# Altium schematic symbol library LIBRARY IGREBOT.SchLib: 100 symbols
Pins are listed as number, name and electrical type; pins without a type are passive.

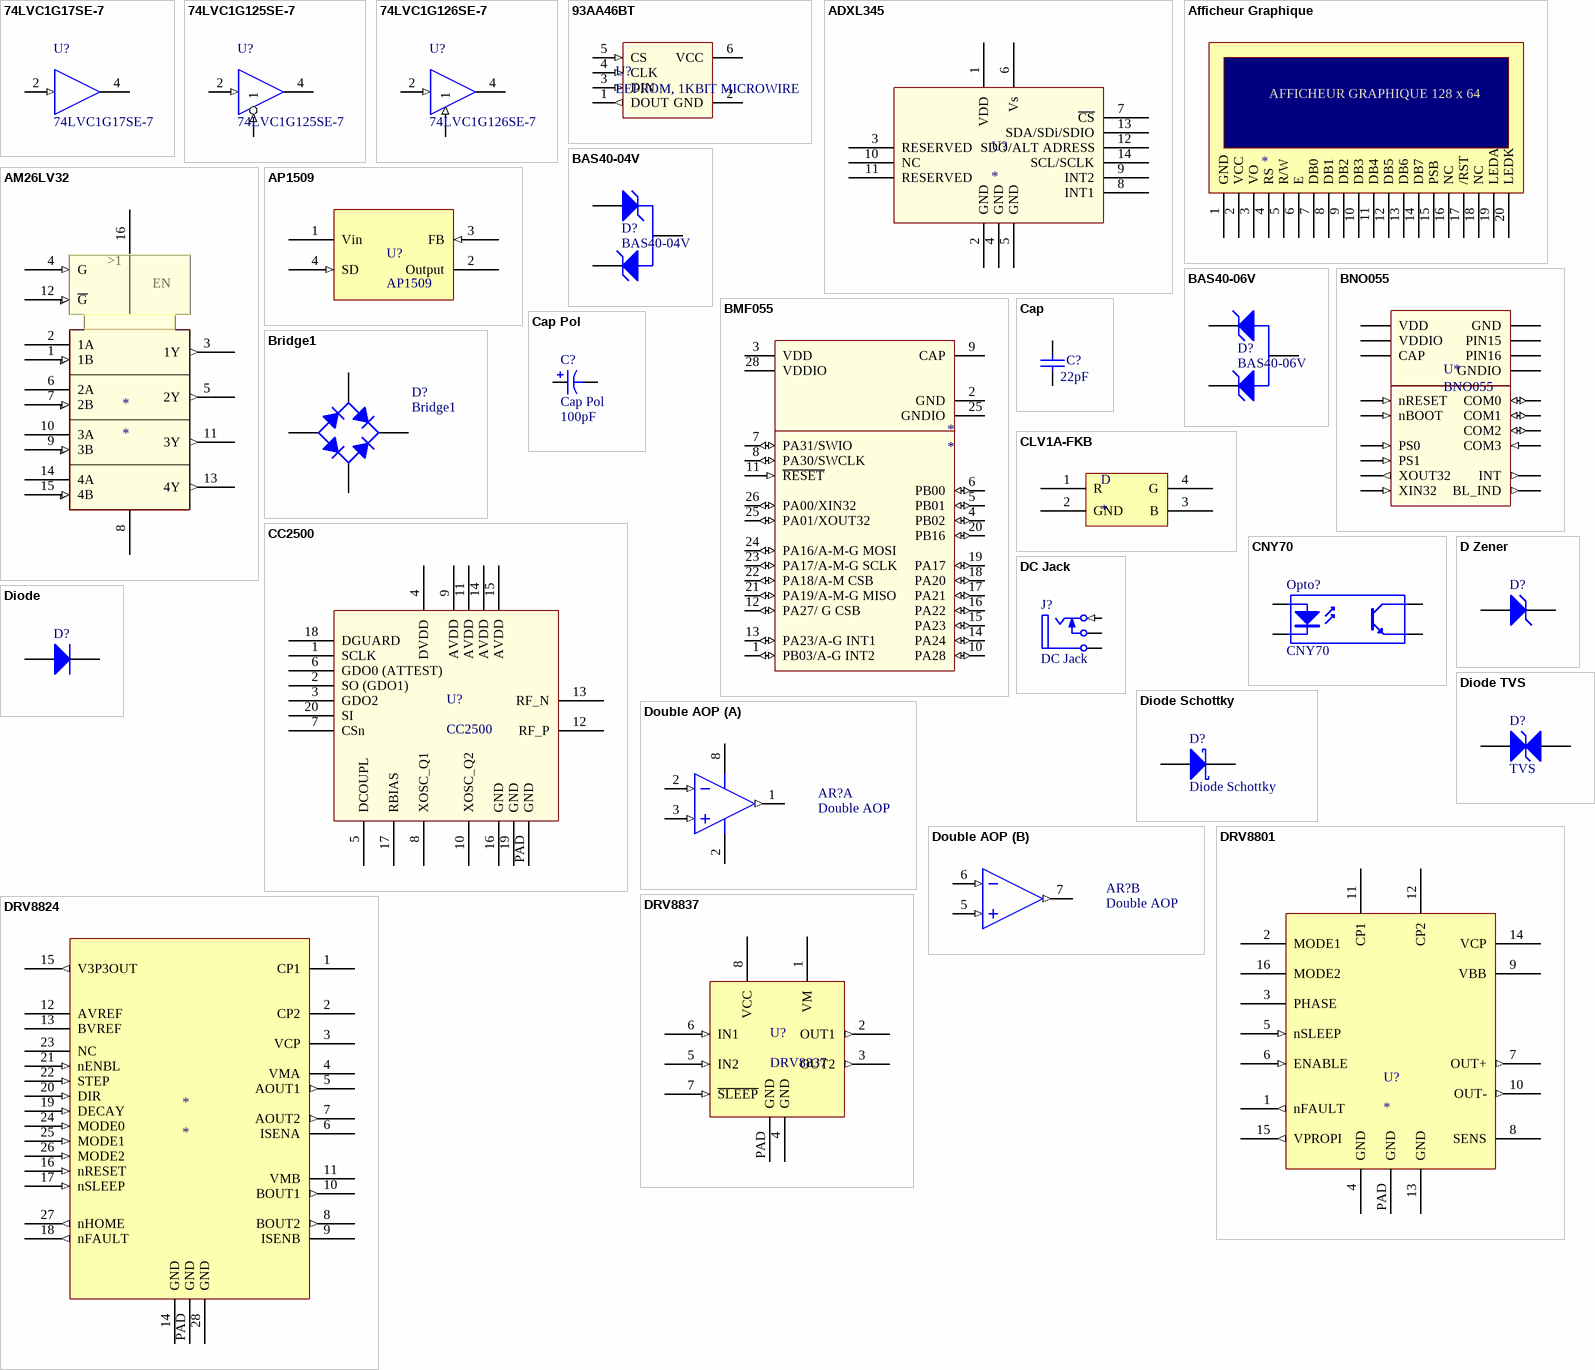
[diagram p0: symbols 74LVC1G17SE-7 to DRV8837]

## 74LVC1G17SE-7
designator U?
SINGLE BUS BUFFER GATE  WITH 3-STATE OUTPUT; PackageDocument: 2000; Published: 15-Apr-2002; LatestRevisionDate: 06-Jun-2005; LatestRevisionNote: Stylized 3D Model Added.; DatasheetDocument: Jun-1989; PackageReference: N14A; Publisher: Altium Limited; ComponentLink1Description: Manufacturer Link; ComponentLink1URL: http://www.national.com/; ComponentLink2Description: Datasheet; ComponentLink2URL: http://www.national.com/ds.cgi/DM/DM54125.pdf; ComponentLink3Description: URL Link1; ComponentLink3URL: http://www.national.com/pf/DM/DM54125.html
footprint DBV
pins: 2 A (in), 3 GND (power) hidden to GND, 4 Y (hiz), 5 VCC (power) hidden to VCC

## 74LVC1G125SE-7
designator U?
SINGLE BUS BUFFER GATE  WITH 3-STATE OUTPUT; PackageDocument: 2000; Published: 15-Apr-2002; LatestRevisionDate: 06-Jun-2005; LatestRevisionNote: Stylized 3D Model Added.; DatasheetDocument: Jun-1989; PackageReference: N14A; Publisher: Altium Limited; ComponentLink1Description: Manufacturer Link; ComponentLink1URL: http://www.national.com/; ComponentLink2Description: Datasheet; ComponentLink2URL: http://www.national.com/ds.cgi/DM/DM54125.pdf; ComponentLink3Description: URL Link1; ComponentLink3URL: http://www.national.com/pf/DM/DM54125.html
footprint DBV
pins: 1 (in), 2 A (in), 3 GND (power) hidden to GND, 4 Y (hiz), 5 VCC (power) hidden to VCC

## 74LVC1G126SE-7
designator U?
SINGLE BUS BUFFER GATE  WITH 3-STATE OUTPUT; PackageDocument: 2000; Published: 15-Apr-2002; LatestRevisionDate: 06-Jun-2005; LatestRevisionNote: Stylized 3D Model Added.; DatasheetDocument: Jun-1989; PackageReference: N14A; Publisher: Altium Limited; ComponentLink1Description: Manufacturer Link; ComponentLink1URL: http://www.national.com/; ComponentLink2Description: Datasheet; ComponentLink2URL: http://www.national.com/ds.cgi/DM/DM54125.pdf; ComponentLink3Description: URL Link1; ComponentLink3URL: http://www.national.com/pf/DM/DM54125.html
footprint DBV
pins: 1 (in), 2 A (in), 3 GND (power) hidden to GND, 4 Y (hiz), 5 VCC (power) hidden to VCC

## 93AA46BT
designator U?, comment EEPROM, 1KBIT MICROWIRE
footprint SOT23-6_M (SOT23, 6-Leads, Body 2.9x1.6mm, Pitch 0.95mm, Lead Span 2.7mm, IPC Low Density)
pins: 1 DOUT (out), 2 GND, 3 DIN (in), 4 CLK (in), 5 CS (in), 6 VCC (power)

## ADXL345
designator U?
footprint LGA14
pins: 1 VDD, 2 GND, 3 RESERVED, 4 GND, 5 GND, 6 Vs, 7 ~{CS}, 8 INT1, 9 INT2, 10 NC, 11 RESERVED, 12 SDO/ALT ADRESS, 13 SDA/SDi/SDIO, 14 SCL/SCLK

## Afficheur Graphique
designator *
footprint Graphic_screen
pins: 1 GND, 2 VCC, 3 VO, 4 RS, 5 R/W, 6 E, 7 DB0, 8 DB1, 9 DB2, 10 DB3, 11 DB4, 12 DB5, 13 DB6, 14 DB7, 15 PSB, 16 NC, 17 /RST, 18 NC, 19 LEDA, 20 LEDK
text: AFFICHEUR GRAPHIQUE 128 x 64

## AM26LV32
designator *
pins: 1 1B (in), 2 1A, 3 1Y (out), 4 G (in), 5 2Y (out), 6 2A, 7 2B (in), 8 GND (power), 9 3B (in), 10 3A, 11 3Y (out), 12 ~{G} (in), 13 4Y (out), 14 4A, 15 4B (in), 16 Vcc (power)
text: >1; EN

## AP1509
designator U?
24V Input, 1A/2A Output, High Efficiency 150KHz, 2A PWM BUCK DC/DC CONVERTER
footprint SOP-8L
pins: 1 Vin (power), 2 Output (power), 3 FB (in), 4 SD (in), 5 GND (power) hidden to GND, 6 GND (power) hidden to GND, 7 GND (power) hidden to GND, 8 GND (power) hidden to GND

## BAS40-04V
designator D?
200mA Dual Surface Mount Zener Diode; Published: 8-Jun-2000; LatestRevisionDate: 17-Jul-2002; LatestRevisionNote: Re-released for DXP Platform.; DatasheetDocument: REV. G; PackageReference: SOT-23; Publisher: Altium Limited; ComponentLink1Description: Manufacturer Link; ComponentLink1URL: http://www.vishay.com/
footprint SOT-23 (SOT-23; 3 Leads; Body 3.0 x 2.6 mm, inc. leads (LxW max))
pins: 1 A1, 2 K2, 3 AK

## BAS40-06V
designator D?
200mA Dual Surface Mount Zener Diode; Published: 8-Jun-2000; LatestRevisionDate: 17-Jul-2002; LatestRevisionNote: Re-released for DXP Platform.; DatasheetDocument: REV. G; PackageReference: SOT-23; Publisher: Altium Limited; ComponentLink1Description: Manufacturer Link; ComponentLink1URL: http://www.vishay.com/
footprint SOT-23 (SOT-23; 3 Leads; Body 3.0 x 2.6 mm, inc. leads (LxW max))
pins: 1 K1, 2 K2, 3 AA

## BMF055
designator *
footprint LGA28
pins: 1 PB03/A-G INT2 (io), 2 GND (power), 3 VDD (power), 4 PB02 (io), 5 PB01 (io), 6 PB00 (io), 7 PA31/SWIO (io), 8 PA30/SWCLK (io), 9 CAP, 10 PA28 (io), 11 ~{RESET} (in), 12 PA27/ G CSB (io), 13 PA23/A-G INT1 (io), 14 PA24 (io), 15 PA23 (io), 16 PA22 (io), 17 PA21 (io), 18 PA20 (io), 19 PA17 (io), 20 PB16 (io), 21 PA19/A-M-G MISO (io), 22 PA18/A-M CSB (io), 23 PA17/A-M-G SCLK (io), 24 PA16/A-M-G MOSI (io), 25 GNDIO (power), 25 PA01/XOUT32 (io), 26 PA00/XIN32 (io), 28 VDDIO (power)

## BNO055
designator U*
footprint LGA28
pins: 1 PIN1 (power) hidden, 2 GND (power), 3 VDD (power), 4 nBOOT (in), 5 PS1 (in), 6 PS0 (in), 7 PIN7 hidden, 8 PIN8 hidden, 9 CAP (power), 10 BL_IND (out), 11 nRESET (in), 12 PIN_12 hidden, 13 PIN_13 hidden, 14 INT (out), 15 PIN15, 16 PIN16, 17 COM3 (in), 18 COM2 (io), 19 COM1 (io), 20 COM0 (io), 21 PIN21 hidden, 22 PIN22 hidden, 23 PIN23 hidden, 24 PIN24 hidden, 25 GNDIO (power), 26 XOUT32 (out), 27 XIN32 (in), 28 VDDIO (power)

## Bridge1
designator D?
Full Wave Diode Bridge; Published: 8-Jun-2000; LatestRevisionDate: 29-May-2009; LatestRevisionNote: Sch pins A & K swapped.; DatasheetVersion: E2732B; PackageReference: D-38; Publisher: Altium Limited; PackageDescription: Bridge Rectifier; 4 Terminals; Body 9.4 x 9.4 mm (typ); Pitch 5.08 mm
footprint D-38 (Bridge Rectifier; 4 Terminals; Body 9.4 x 9.4 mm (typ); Pitch 5.08 mm)
simulation model BRIDGE (Spice Subcircuit)
pins: 1 K, 2 C, 3 A, 4 C

## Cap
designator C?  value 22pF  (hidden comment: Cap)
Capacitor; Published: 8-Jun-2000; LatestRevisionDate: 17-Jul-2002; LatestRevisionNote: Re-released for DXP Platform.; PackageReference: RAD-0.3; Publisher: Altium Limited; Supplier: FARNELL
simulation model CAP (Capacitor)
signal-integrity model Cap
footprint C0805 (Chip Capacitor; Body 2.0 x 1.2 mm (LxW typ))
pins: 1, 2

## Cap Pol
designator C?  value 100pF
Polarized Capacitor; Published: 8-Jun-2000; LatestRevisionDate: 17-Jul-2002; LatestRevisionNote: Re-released for DXP Platform.; PackageReference: POLAR0.8; Publisher: Altium Limited; Supplier: FARNELL
simulation model CAP (Capacitor)
signal-integrity model Cap Pol
footprint ALUMINIUM Boîtier B
footprint ALUMINIUM Boîtier C
footprint ALUMINIUM Boîtier e
pins: 1, 2
1 alternate drawing of the same symbol

## CC2500
designator U?
pins: 1 SCLK, 2 SO (GDO1), 3 GDO2, 4 DVDD, 5 DCOUPL, 6 GDO0 (ATTEST), 7 CSn, 8 XOSC_Q1, 9 AVDD, 10 XOSC_Q2, 11 AVDD, 12 RF_P, 13 RF_N, 14 AVDD, 15 AVDD, 16 GND, 17 RBIAS, 18 DGUARD, 19 GND, 20 SI, PAD GND

## CLV1A-FKB
designator D
footprint WL-SFTW SMD
pins: 1 R, 2 GND, 3 B, 4 G

## CNY70
designator Opto?
4-Pin Phototransistor CNY; Published: 24-Mar-1999; LatestRevisionDate: 04-Mar-2005; LatestRevisionNote: Sch pins 3 & 4 Swapped.; DatasheetVersion: Nov-2003; PackageReference: DIP-4; Publisher: Altium Limited
footprint CNY70
pins: A "Anode", Cath K "Cathode", Coll C "Collector", E "Emitter"

## D Zener
designator D?
Zener Diode; Published: 8-Jun-2000; LatestRevisionDate: 17-Jul-2002; LatestRevisionNote: Re-released for DXP Platform.; PackageReference: DIODE-0.7; Publisher: Altium Limited
simulation model ZENER (Diode)
signal-integrity model D Zener
footprint SMB (DO-214-AA/SMB; 2 C-Bend Leads; Body 5.3 x 3.6 mm, inc. leads (LxW))
footprint SOT-23 (SOT-23; 3 Leads; Body 3.0 x 2.6 mm, inc. leads (LxW max))
footprint SOD-323 (SOD-323; 2 Leads; Body 1.8 x 1.35 mm, (LxW))
pins: 1 A, 2 K

## DC Jack
designator J?
PackageDocument: 2003; PCB_Layout: Complies with manufacturer's recommendation.; DrillAndSlotSize: Corresponds to nominal value.; LatestRevisionDate: 15-Jul-2004; LatestRevisionNote: Component Replaced & renamed from "Phonejack".; DatasheetDocument: 2003; PackageReference: S1VS_SNB; Publisher: Altium Limited; ComponentLink1Description: Manufacturer Link; ComponentLink1URL: http://www.cliffuk.co.uk/
signal-integrity model JACK Socket
footprint RAPC722X (SWITCHCRAFT - RAPC722X - JACK FICHE FEMELLE DC)
pins: 1 T (in) "Tip", 2 TN "Tip Normal (Break Contact)", 3 S (power) "Sleeve (Ground)"

## Diode
designator D?
Default Diode; Published: 8-Jun-2000; LatestRevisionDate: 17-Jul-2002; LatestRevisionNote: Re-released for DXP Platform.; PackageDocument: Sep-1996; PackageReference: SMC; Publisher: Altium Limited; Code_JEDEC: DO-214-AB
simulation model DIODE (Diode)
signal-integrity model Diode
footprint SMB (DO-214-AA/SMB; 2 C-Bend Leads; Body 5.3 x 3.6 mm, inc. leads (LxW))
pins: 1 A, 2 K

## Diode Schottky
designator D?
Published: 8-Jun-2000; LatestRevisionDate: 17-Jul-2002; LatestRevisionNote: Re-released for DXP Platform.; PackageReference: SMB; Publisher: Altium Limited; Code_JEDEC: DO-214-AA
footprint SMB (DO-214-AA/SMB; 2 C-Bend Leads; Body 5.3 x 3.6 mm, inc. leads (LxW))
simulation model SKYDIODE (Diode)
signal-integrity model D Schottky
footprint SOD-123 (SOD-123; 2 Leads; Body 2.7 x 1.6 mm, (LxW))
pins: 1 A, 2 K

## Diode TVS
designator D?, comment TVS
Diode TVS; Published: 8-Jun-2000; LatestRevisionDate: 17-Jul-2002; LatestRevisionNote: Re-released for DXP Platform.; PackageReference: SMB; Publisher: Altium Limited; Code_JEDEC: DO-214-AA
footprint SMB (DO-214-AA/SMB; 2 C-Bend Leads; Body 5.3 x 3.6 mm, inc. leads (LxW))
pins: 1 A, 2 K

## Double AOP
designator AR?
FET Operational Amplifier; Published: 8-Jun-2000; LatestRevisionDate: 17-Jul-2002; LatestRevisionNote: Re-released for DXP Platform.; DatasheetVersion: REV. B; PackageVersion: 1990; PackageReference: H-08A; Publisher: Altium Limited; PackageDescription: Can; 8 Leads; Pin Circle Dia. 5.08 mm; Lead Dia. 0.53 mm (max); ComponentLink1Description: Manufacturer Link; ComponentLink1URL: http://www.analog.com/
simulation model AD645A (Spice Subcircuit)
part A pins: 1 OUT (out), 2 IN- (in), 2 4 (power), 3 IN+ (in), 8 V+ (power)
part B pins: 5 IN+ (in), 6 IN- (in), 7 OUT (out)

## DRV8801
designator U?
footprint PWP_16
pins: 1 nFAULT (out), 2 MODE1 (power), 3 PHASE (power), 4 GND (power), 5 nSLEEP (in), 6 ENABLE (in), 7 OUT+ (out), 8 SENS, 9 VBB, 10 OUT- (out), 11 CP1, 12 CP2, 13 GND (power), 14 VCP (power), 15 VPROPI (out), 16 MODE2 (power), PAD GND (power)

## DRV8824
designator *
footprint PWP_28
pins: 1 CP1, 2 CP2, 3 VCP, 4 VMA, 5 AOUT1 (out), 6 ISENA, 7 AOUT2 (out), 8 BOUT2 (out), 9 ISENB, 10 BOUT1 (out), 11 VMB, 12 AVREF (power), 13 BVREF (power), 14 GND (power), 15 V3P3OUT (out), 16 nRESET (in) "GND", 17 nSLEEP (in), 18 nFAULT (out), 19 DECAY (in), 20 DIR (in), 21 nENBL (in), 22 STEP (in), 23 NC, 24 MODE0 (in), 25 MODE1 (in), 26 MODE2 (in), 27 nHOME (out), 28 GND (power), PAD GND (power)

## DRV8837
designator U?
pins: 1 VM (power), 2 OUT1 (out), 3 OUT2 (out), 4 GND (power), 5 IN2 (in), 6 IN1 (in), 7 ~{SLEEP} (in), 8 VCC (power), PAD GND (power)

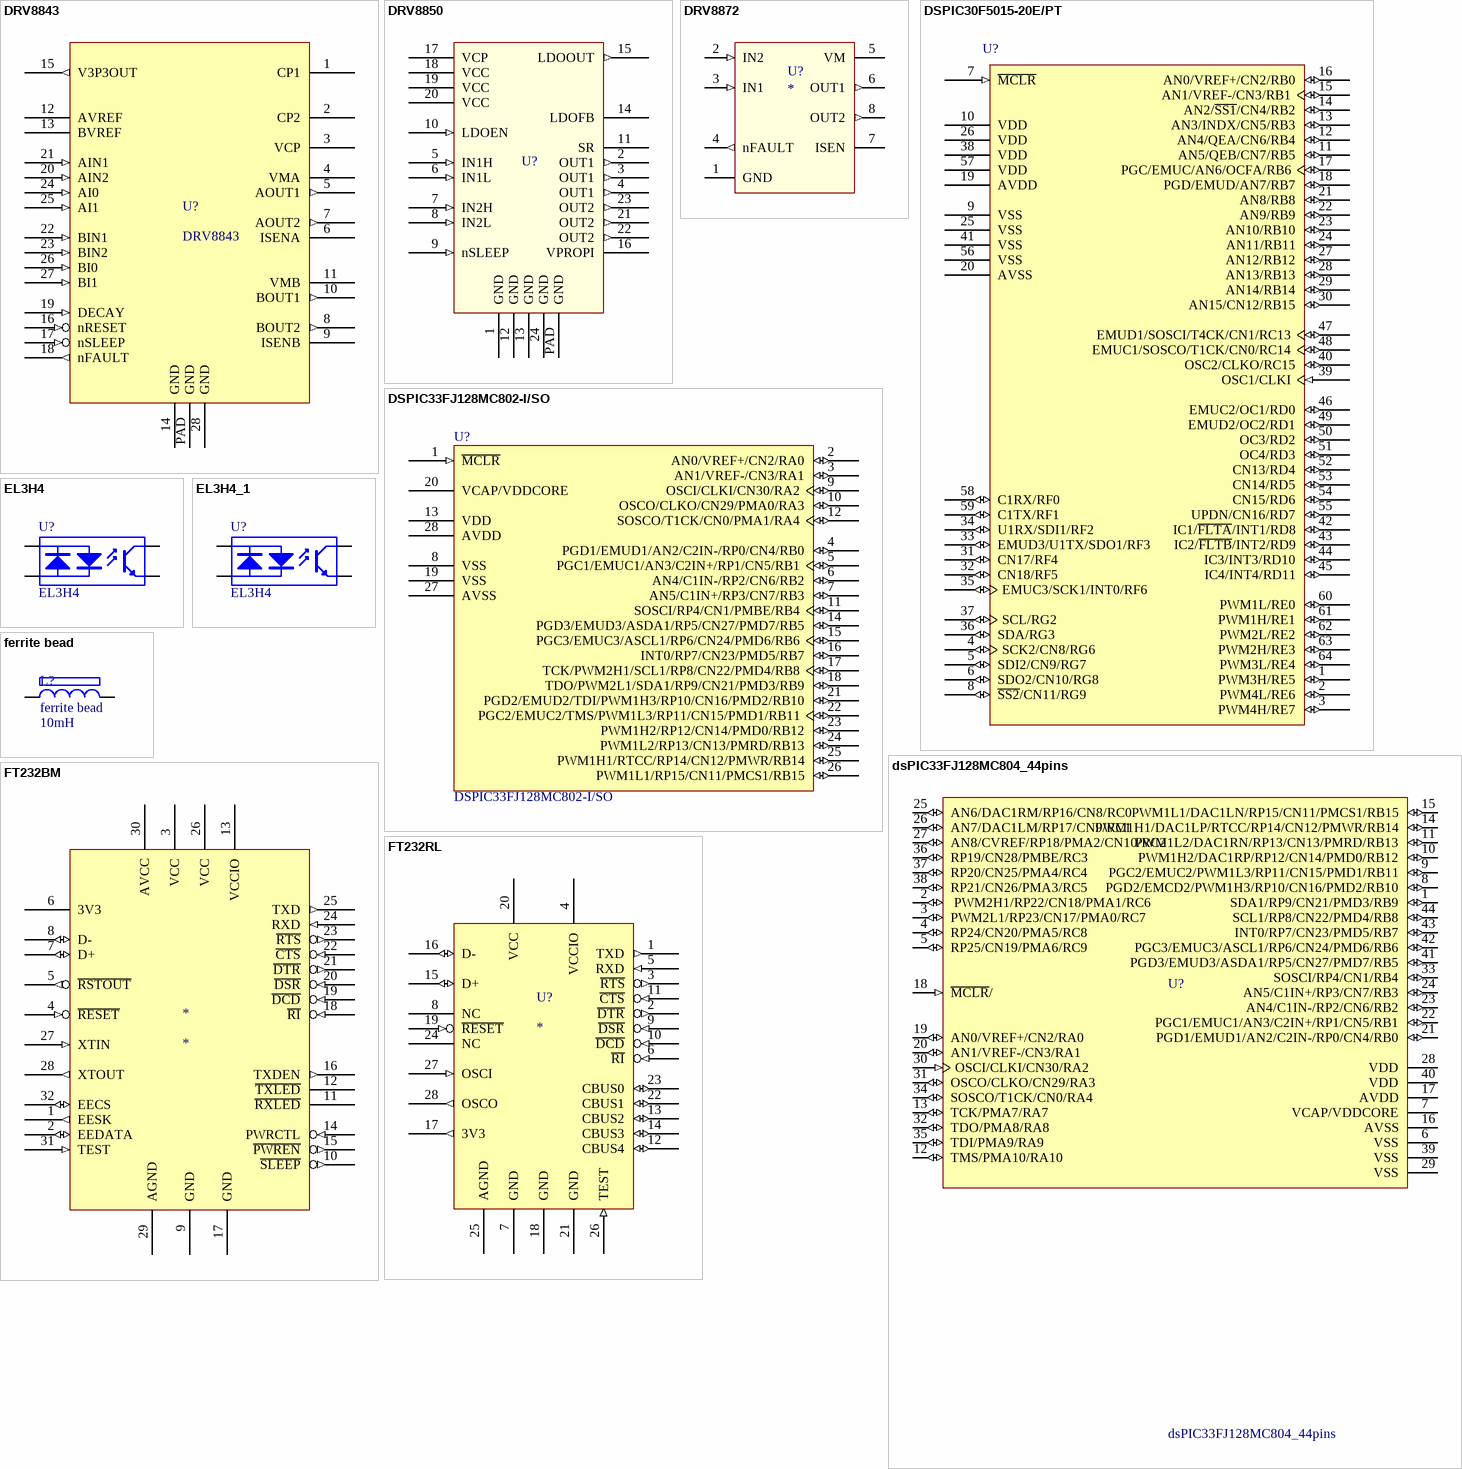
[diagram p1: symbols DRV8843 to FT232RL]

## DRV8843
designator U?
DUAL H-BRIDGE DRIVER IC
footprint PWP_28
pins: 1 CP1, 2 CP2, 3 VCP, 4 VMA, 5 AOUT1 (out), 6 ISENA, 7 AOUT2 (out), 8 BOUT2 (out), 9 ISENB, 10 BOUT1 (out), 11 VMB, 12 AVREF (power), 13 BVREF (power), 14 GND (power), 15 V3P3OUT (out), 16 nRESET (in) "GND", 17 nSLEEP (in), 18 nFAULT (out), 19 DECAY (in), 20 AIN2 (in), 21 AIN1 (in), 22 BIN1 (in), 23 BIN2 (in), 24 AI0 (in), 25 AI1 (in), 26 BI0 (in), 27 BI1 (in), 28 GND (power), PAD GND (power)

## DRV8850
designator U?  (value not drawn)
Low-Voltage  H-Bridge  IC  With  LDO  Voltage  Regulator
footprint VQFN-24
pins: 1 GND (power), 2 OUT1 (out), 3 OUT1 (out), 4 OUT1 (out), 5 IN1H (in), 6 IN1L (in), 7 IN2H (in), 8 IN2L (in), 9 nSLEEP (in), 10 LDOEN (in), 11 SR, 12 GND (power), 13 GND (power), 14 LDOFB, 15 LDOOUT (out), 16 VPROPI, 17 VCP (power), 18 VCC (power), 19 VCC (power), 20 VCC (power), 21 OUT2 (out), 22 OUT2 (out), 23 OUT2 (out), 24 GND (power), PAD GND (power)

## DRV8872
designator U?
3.6A Brushed  DC Motor  Driver  With Fault Reporting
footprint DDA (PowerPAD PLASTIC SMALL-OUTLINE)
pins: 1 GND (power), 2 IN2 (in), 3 IN1 (in), 4 nFAULT (out), 5 VM (power), 6 OUT1 (out), 7 ISEN, 8 OUT2 (out), PPAD hidden to GND

## DSPIC30F5015-20E/PT
designator U?
High-Performance 16-bit Digital Signal Controller, 66 KB Flash, 2 KB SRAM, 1 KB EEPROM, 64-Pin TQFP, Extended High Temperature; Published: 29-Jan-2009; DatasheetVersion: revD, Jun-2008; PackageVersion: revAW, Oct-2008; PackageReference: TQFP-PT64; Publisher: Altium Limited; PackageDescription: 64-Lead Thin Plastic Quad Flat Pack (PT) - 10x10x1mm Body, 2.00mm [TQFP]; Code_JEDEC: MS-026; ComponentLink1Description: Manufacturer Link; ComponentLink1URL: http://www.microchip.com; ComponentLink2Description: Datasheet; ComponentLink2URL: http://ww1.microchip.com/downloads/en/DeviceDoc/70149D.pdf; ComponentLink3Description: Packaging Specification; ComponentLink3URL: http://ww1.microchip.com/downloads/en/PackagingSpec/00049AW.pdf
footprint TQFP-PT64_M (Thin QFP, 64-Leads, Body 10x10mm, Pitch 0.5mm, IPC Low Density)
pins: 1 PWM3H/RE5 (io), 2 PWM4L/RE6 (io), 3 PWM4H/RE7 (io), 4 SCK2/CN8/RG6 (io), 5 SDI2/CN9/RG7 (io), 6 SDO2/CN10/RG8 (io), 7 ~{MCLR} (in), 8 ~{SS2}/CN11/RG9 (io), 9 VSS (power), 10 VDD (power), 11 AN5/QEB/CN7/RB5 (io), 12 AN4/QEA/CN6/RB4 (io), 13 AN3/INDX/CN5/RB3 (io), 14 AN2/~{SS1}/CN4/RB2 (io), 15 AN1/VREF-/CN3/RB1 (io), 16 AN0/VREF+/CN2/RB0 (io), 17 PGC/EMUC/AN6/OCFA/RB6 (io), 18 PGD/EMUD/AN7/RB7 (io), 19 AVDD (power), 20 AVSS (power), 21 AN8/RB8 (io), 22 AN9/RB9 (io), 23 AN10/RB10 (io), 24 AN11/RB11 (io), 25 VSS (power), 26 VDD (power), 27 AN12/RB12 (io), 28 AN13/RB13 (io), 29 AN14/RB14 (io), 30 AN15/CN12/RB15 (io), 31 CN17/RF4 (io), 32 CN18/RF5 (io), 33 EMUD3/U1TX/SDO1/RF3 (io), 34 U1RX/SDI1/RF2 (io), 35 EMUC3/SCK1/INT0/RF6 (io), 36 SDA/RG3 (io), 37 SCL/RG2 (io), 38 VDD (power), 39 OSC1/CLKI (in), 40 OSC2/CLKO/RC15 (io), 41 VSS (power), 42 IC1/~{FLTA}/INT1/RD8 (io), 43 IC2/~{FLTB}/INT2/RD9 (io), 44 IC3/INT3/RD10 (io), 45 IC4/INT4/RD11 (io), 46 EMUC2/OC1/RD0 (io), 47 EMUD1/SOSCI/T4CK/CN1/RC13 (io), 48 EMUC1/SOSCO/T1CK/CN0/RC14 (io), 49 EMUD2/OC2/RD1 (io), 50 OC3/RD2 (io), 51 OC4/RD3 (io), 52 CN13/RD4 (io), 53 CN14/RD5 (io), 54 CN15/RD6 (io), 55 UPDN/CN16/RD7 (io), 56 VSS (power), 57 VDD (power), 58 C1RX/RF0 (io), 59 C1TX/RF1 (io), 60 PWM1L/RE0 (io), 61 PWM1H/RE1 (io), 62 PWM2L/RE2 (io), 63 PWM2H/RE3 (io), 64 PWM3L/RE4 (io)

## DSPIC33FJ128MC802-I/SO
designator U?
High-Performance 16-bit Digital Signal Controller, 128 KB Flash, 16 KB RAM, 28-Pin SOIC, Industrial Temperature; Published: 29-Jan-2009; DatasheetVersion: revB, Mar-2008; PackageVersion: revAW, Oct-2008; PackageReference: SOIC-SO28; Publisher: Altium Limited; PackageDescription: 28-Lead Plastic Small Outline (SO) - Wide 7.50mm Body [SOIC]; Code_JEDEC: MS-013; ComponentLink1Description: Manufacturer Link; ComponentLink1URL: http://www.microchip.com; ComponentLink2Description: Datasheet; ComponentLink2URL: http://ww1.microchip.com/downloads/en/DeviceDoc/70291B.pdf; ComponentLink3Description: Packaging Specification; ComponentLink3URL: http://ww1.microchip.com/downloads/en/PackagingSpec/00049AW.pdf
footprint SOIC-SO28_N (SOIC, 28-Leads, Body 17.9x7.5mm, Pitch 1.27mm, IPC Medium Density)
pins: 1 ~{MCLR} (in), 2 AN0/VREF+/CN2/RA0 (io), 3 AN1/VREF-/CN3/RA1 (io), 4 PGD1/EMUD1/AN2/C2IN-/RP0/CN4/RB0 (io), 5 PGC1/EMUC1/AN3/C2IN+/RP1/CN5/RB1 (io), 6 AN4/C1IN-/RP2/CN6/RB2 (io), 7 AN5/C1IN+/RP3/CN7/RB3 (io), 8 VSS (power), 9 OSCI/CLKI/CN30/RA2 (io), 10 OSCO/CLKO/CN29/PMA0/RA3 (io), 11 SOSCI/RP4/CN1/PMBE/RB4 (io), 12 SOSCO/T1CK/CN0/PMA1/RA4 (io), 13 VDD (power), 14 PGD3/EMUD3/ASDA1/RP5/CN27/PMD7/RB5 (io), 15 PGC3/EMUC3/ASCL1/RP6/CN24/PMD6/RB6 (io), 16 INT0/RP7/CN23/PMD5/RB7 (io), 17 TCK/PWM2H1/SCL1/RP8/CN22/PMD4/RB8 (io), 18 TDO/PWM2L1/SDA1/RP9/CN21/PMD3/RB9 (io), 19 VSS (power), 20 VCAP/VDDCORE (power), 21 PGD2/EMUD2/TDI/PWM1H3/RP10/CN16/PMD2/RB10 (io), 22 PGC2/EMUC2/TMS/PWM1L3/RP11/CN15/PMD1/RB11 (io), 23 PWM1H2/RP12/CN14/PMD0/RB12 (io), 24 PWM1L2/RP13/CN13/PMRD/RB13 (io), 25 PWM1H1/RTCC/RP14/CN12/PMWR/RB14 (io), 26 PWM1L1/RP15/CN11/PMCS1/RB15 (io), 27 AVSS (power), 28 AVDD (power)

## dsPIC33FJ128MC804_44pins
designator U?
LatestRevisionDate: 10-Feb-2009; PackageReference: TQFP-44; Supplier name: FARNELL; Supplier code: *; Supplier: MICROCHIP
3D model PIC18C442-TQFP-44 (QFP, Thin; 44 Leads; Body 10 x 10 mm; Pitch 0.8 mm; Lead Form 1.0/0.1 mm)
footprint TQFP-44 (QFP, Thin; 44 Leads; Body 10 x 10 mm; Pitch 0.8 mm; Lead Form 1.0/0.1 mm)
pins: 1 SDA1/RP9/CN21/PMD3/RB9 (io), 2  PWM2H1/RP22/CN18/PMA1/RC6 (io), 3 PWM2L1/RP23/CN17/PMA0/RC7 (io), 4 RP24/CN20/PMA5/RC8 (io), 5 RP25/CN19/PMA6/RC9 (io), 6 VSS (power), 7 VCAP/VDDCORE (power), 8 PGD2/EMCD2/PWM1H3/RP10/CN16/PMD2/RB10 (io), 9 PGC2/EMUC2/PWM1L3/RP11/CN15/PMD1/RB11 (io), 10 PWM1H2/DAC1RP/RP12/CN14/PMD0/RB12 (io), 11 PWM1L2/DAC1RN/RP13/CN13/PMRD/RB13 (io), 12 TMS/PMA10/RA10 (io), 13 TCK/PMA7/RA7 (io), 14 PWM1H1/DAC1LP/RTCC/RP14/CN12/PMWR/RB14 (io), 15 PWM1L1/DAC1LN/RP15/CN11/PMCS1/RB15 (io), 16 AVSS (power), 17 AVDD (power), 18 ~{MCLR}/ (in), 19 AN0/VREF+/CN2/RA0 (io), 20 AN1/VREF-/CN3/RA1 (io), 21 PGD1/EMUD1/AN2/C2IN-/RP0/CN4/RB0 (io), 22 PGC1/EMUC1/AN3/C2IN+/RP1/CN5/RB1 (io), 23 AN4/C1IN-/RP2/CN6/RB2 (io), 24 AN5/C1IN+/RP3/CN7/RB3 (io), 25 AN6/DAC1RM/RP16/CN8/RC0 (io), 26 AN7/DAC1LM/RP17/CN9/RC1 (io), 27 AN8/CVREF/RP18/PMA2/CN10/RC2 (io), 28 VDD (power), 29 VSS (power), 30 OSCI/CLKI/CN30/RA2 (in), 31 OSCO/CLKO/CN29/RA3 (io), 32 TDO/PMA8/RA8 (io), 33 SOSCI/RP4/CN1/RB4 (io), 34 SOSCO/T1CK/CN0/RA4 (io), 35 TDI/PMA9/RA9 (io), 36 RP19/CN28/PMBE/RC3 (io), 37 RP20/CN25/PMA4/RC4 (io), 38 RP21/CN26/PMA3/RC5 (io), 39 VSS (power), 40 VDD (power), 41 PGD3/EMUD3/ASDA1/RP5/CN27/PMD7/RB5 (io), 42 PGC3/EMUC3/ASCL1/RP6/CN24/PMD6/RB6 (io), 43 INT0/RP7/CN23/PMD5/RB7 (io), 44 SCL1/RP8/CN22/PMD4/RB8 (io)

## EL3H4
designator U?
4-Pin Phototransistor, AC input; Published: 24-Mar-1999; LatestRevisionDate: 04-Mar-2005; LatestRevisionNote: Sch pins 3 & 4 Swapped.; DatasheetVersion: Nov-2003; PackageReference: DIP-4; Publisher: Altium Limited
pins: A "Anode", Cath K "Cathode", Coll C "Collector", E "Emitter"

## EL3H4_1
designator U?, comment EL3H4
4-Pin Phototransistor, AC input; Published: 24-Mar-1999; LatestRevisionDate: 04-Mar-2005; LatestRevisionNote: Sch pins 3 & 4 Swapped.; DatasheetVersion: Nov-2003; PackageReference: DIP-4; Publisher: Altium Limited
pins: A "Anode", Cath K "Cathode", Coll C "Collector", E "Emitter"

## ferrite bead
designator L?  value 10mH
Code_IEC: 1005; Published: 8-Jun-2000; LatestRevisionDate: 17-Jul-2002; LatestRevisionNote: Re-released for DXP Platform.; PackageReference: 0402-A; Publisher: Altium Limited; Code_JEITA: 0402
footprint 0402-A (Chip Inductor; Body 1 x 0.5 mm (LxW typ))
footprint 2012_Chip (2012 Chip; Chip Inductor; Body 2.0 x 1.2 mm (LxW typ))
footprint 2029 (Chip Inductor; Body 2 x 1.2 mm (LxW typ))
footprint 3261 (3216 Chip; Chip Inductor; Body 3.2 x 1.6 mm (LxW typ))
footprint 4564_Chip (4564 Chip; Chip Inductor; Body 4.5 x 6.4 mm (LxW typ))
simulation model INDUCTOR (Inductor)
signal-integrity model Inductor
footprint IHLP_ER
pins: 1, 2

## FT232BM
designator *
footprint 32 LD LQFP (Thin)
pins: 1 EESK (out), 2 EEDATA (io), 3 VCC (power), 4 ~{RESET} (in), 5 ~{RSTOUT} (out), 6 3V3 (power), 7 D+ (io), 8 D- (io), 9 GND (power), 10 ~{SLEEP} (out), 11 ~{RXLED} (oc), 12 ~{TXLED} (oc), 13 VCCIO (power), 14 PWRCTL (in), 15 ~{PWREN} (out), 16 TXDEN (out), 17 GND (power), 18 ~{RI} (in), 19 ~{DCD} (in), 20 ~{DSR} (in), 21 ~{DTR} (out), 22 ~{CTS} (in), 23 ~{RTS} (out), 24 RXD (in), 25 TXD (out), 26 VCC (power), 27 XTIN (in), 28 XTOUT (out), 29 AGND (power) "GND", 30 AVCC, 31 TEST (in), 32 EECS (io)

## FT232RL
designator U?
footprint 32 LD LQFP (Thin)
pins: 1 TXD (out), 2 ~{DTR} (out), 3 ~{RTS} (out), 4 VCCIO (power), 5 RXD (in), 6 ~{RI} (in), 7 GND (power), 8 NC, 9 ~{DSR} (in), 10 ~{DCD} (in), 11 ~{CTS} (in), 12 CBUS4 (io), 13 CBUS2 (io), 14 CBUS3 (io), 15 D+ (io), 16 D- (io), 17 3V3 (out), 18 GND (power), 19 ~{RESET} (in), 20 VCC (power), 21 GND (power), 22 CBUS1 (io), 23 CBUS0 (io), 24 NC, 25 AGND (power) "GND", 26 TEST (in), 27 OSCI (in), 28 OSCO (out)

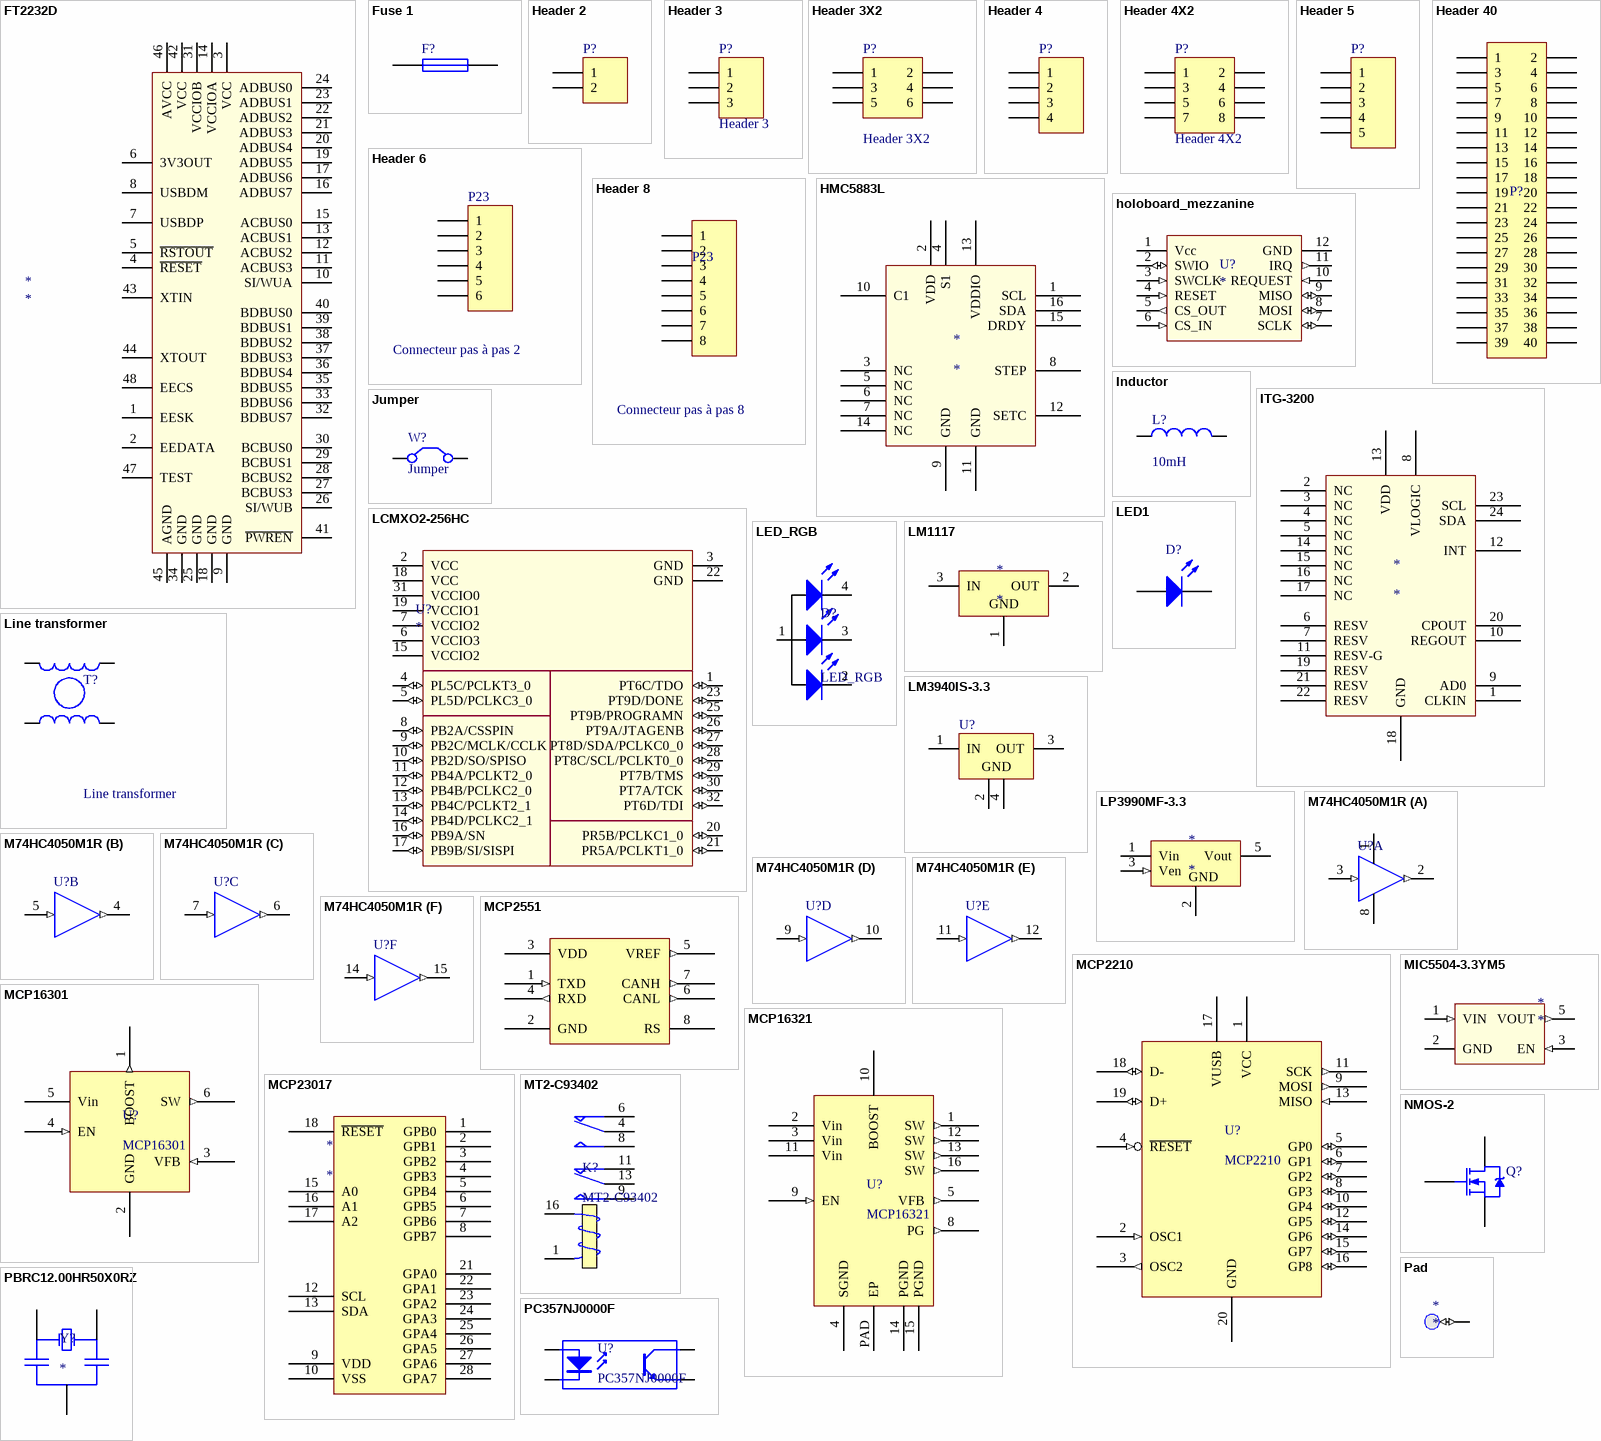
[diagram p2: symbols FT2232D to PC357NJ0000F]

## FT2232D
designator *
footprint LQFP-48 (TSQFP, 48-Leads, Body 9,0x9,0mm (max), Pitch 0,50mm, IPC Medium Density)
pins: 1 EESK, 2 EEDATA, 3 VCC, 4 ~{RESET}, 5 ~{RSTOUT}, 6 3V3OUT, 7 USBDP, 8 USBDM, 9 GND, 10 SI/WUA, 11 ACBUS3, 12 ACBUS2, 13 ACBUS1, 14 VCCIOA, 15 ACBUS0, 16 ADBUS7, 17 ADBUS6, 18 GND, 19 ADBUS5, 20 ADBUS4, 21 ADBUS3, 22 ADBUS2, 23 ADBUS1, 24 ADBUS0, 25 GND, 26 SI/WUB, 27 BCBUS3, 28 BCBUS2, 29 BCBUS1, 30 BCBUS0, 31 VCCIOB, 32 BDBUS7, 33 BDBUS6, 34 GND, 35 BDBUS5, 36 BDBUS4, 37 BDBUS3, 38 BDBUS2, 39 BDBUS1, 40 BDBUS0, 41 ~{PWREN}, 42 VCC, 43 XTIN, 44 XTOUT, 45 AGND, 46 AVCC, 47 TEST, 48 EECS

## Fuse 1
designator F?
Fuse; Published: 8-Jun-2000; LatestRevisionDate: 17-Jul-2002; LatestRevisionNote: Re-released for DXP Platform.; PackageReference: PIN-W2/E2.8; Publisher: Altium Limited
simulation model FUSE (Spice Subcircuit)
footprint fusible
pins: 1, 2

## Header 2
designator P?
Header, 2-Pin; LatestRevisionDate: 17-Jul-2002; LatestRevisionNote: Re-released for DXP Platform.; Publisher: Altium Limited
footprint Connecteur de puissance 2pts
3D model 436500203 (PCB3D Model)
pins: 1, 2

## Header 3
designator P?
Header, 3-Pin; LatestRevisionDate: 17-Jul-2002; LatestRevisionNote: Re-released for DXP Platform.; Publisher: Altium Limited
footprint Connecteur 3pt
3D model 901361103 (PCB3D Model)
footprint HDR1X3
pins: 1, 2, 3

## Header 3X2
designator P?
Header, 6-Pin, Dual row; LatestRevisionDate: 17-Jul-2002; LatestRevisionNote: Re-released for DXP Platform.; Publisher: Altium Limited
footprint minitek127-6way
pins: 1, 2, 3, 4, 5, 6

## Header 4
designator P?
Header, 4-Pin; LatestRevisionDate: 17-Jul-2002; LatestRevisionNote: Re-released for DXP Platform.; Publisher: Altium Limited
footprint HDR1X4 (Connector; Header; 4 Position)
signal-integrity model Connector
pins: 1, 2, 3, 4

## Header 4X2
designator P?
Header, 4-Pin, Dual row; LatestRevisionDate: 17-Jul-2002; LatestRevisionNote: Re-released for DXP Platform.; Publisher: Altium Limited
pins: 1, 2, 3, 4, 5, 6, 7, 8

## Header 5
designator P?
Header, 5-Pin; LatestRevisionDate: 17-Jul-2002; LatestRevisionNote: Re-released for DXP Platform.; Publisher: Altium Limited
signal-integrity model Connector
footprint CONNECTEUR 5pt
3D model 901361205 (PCB3D Model)
pins: 1, 2, 3, 4, 5

## Header 6
designator P23, comment Connecteur pas à pas 2
Header, 6-Pin; Supplie: FARNELL
footprint Connecteur 6pts
3D model 901361106 (PCB3D Model)
pins: 1, 2, 3, 4, 5, 6

## Header 8
designator P23, comment Connecteur pas à pas 8
Header, 8-Pin; Supplie: FARNELL
footprint 20.501M/8 (BORNIER POUR CI 8 VOIES)
pins: 1, 2, 3, 4, 5, 6, 7, 8

## Header 40
designator P?  (value not drawn)
pins: 1, 2, 3, 4, 5, 6, 7, 8, 9, 10, 11, 12, 13, 14, 15, 16, 17, 18, 19, 20, 21, 22, 23, 24, 25, 26, 27, 28, 29, 30, 31, 32, 33, 34, 35, 36, 37, 38, 39, 40

## HMC5883L
designator *
footprint LPCC - 16PIN
pins: 1 SCL, 2 VDD, 3 NC, 4 S1, 5 NC, 6 NC, 7 NC, 8 STEP, 9 GND, 10 C1, 11 GND, 12 SETC, 13 VDDIO, 14 NC, 15 DRDY, 16 SDA

## holoboard_mezzanine
designator U?
footprint holoboard_mezzanine
pins: 1 Vcc (power), 2 SWIO (io), 3 SWCLK (in), 4 RESET (in), 5 CS_OUT (out), 6 CS_IN (in), 7 SCLK (io), 8 MOSI (io), 9 MISO (io), 10 REQUEST (in), 11 IRQ (out), 12 GND (power)

## Inductor
designator L?  value 10mH
Inductor; Code_IEC: 1005; Published: 8-Jun-2000; LatestRevisionDate: 17-Jul-2002; LatestRevisionNote: Re-released for DXP Platform.; PackageReference: 0402-A; Publisher: Altium Limited; Code_JEITA: 0402
footprint 0402-A (Chip Inductor; Body 1 x 0.5 mm (LxW typ))
footprint 2012_Chip (2012 Chip; Chip Inductor; Body 2.0 x 1.2 mm (LxW typ))
footprint 2029 (Chip Inductor; Body 2 x 1.2 mm (LxW typ))
footprint 3261 (3216 Chip; Chip Inductor; Body 3.2 x 1.6 mm (LxW typ))
footprint 4564_Chip (4564 Chip; Chip Inductor; Body 4.5 x 6.4 mm (LxW typ))
simulation model INDUCTOR (Inductor)
signal-integrity model Inductor
footprint IHLP_ER
pins: 1, 2

## ITG-3200
designator *
footprint QFN24
pins: 1 CLKIN, 2 NC, 3 NC, 4 NC, 5 NC, 6 RESV, 7 RESV, 8 VLOGIC, 9 AD0, 10 REGOUT, 11 RESV-G, 12 INT, 13 VDD, 14 NC, 15 NC, 16 NC, 17 NC, 18 GND, 19 RESV, 20 CPOUT, 21 RESV, 22 RESV, 23 SCL, 24 SDA

## Jumper
designator W?
Jumper Wire; Published: 24-Mar-1999; LatestRevisionDate: 17-Jul-2002; LatestRevisionNote: Re-released for DXP Platform.; PackageReference: RAD-0.2; Publisher: Altium Limited; PackageDescription: Radial Cap, Thru-Hole; 2 Leads; 0.2 in Pin Spacing
footprint HDR1X2
pins: 1 C1, 2 C2

## LCMXO2-256HC
designator U?
footprint QFN32
pins: 1 PT6C/TDO (io), 2 VCC (power), 3 GND (power), 4 PL5C/PCLKT3_0 (io), 5 PL5D/PCLKC3_0 (io), 6 VCCIO3 (power), 7 VCCIO2 (power), 8 PB2A/CSSPIN (io), 9 PB2C/MCLK/CCLK (io), 10 PB2D/SO/SPISO (io), 11 PB4A/PCLKT2_0 (io), 12 PB4B/PCLKC2_0 (io), 13 PB4C/PCLKT2_1 (io), 14 PB4D/PCLKC2_1 (io), 15 VCCIO2 (power), 16 PB9A/SN (io), 17 PB9B/SI/SISPI (io), 18 VCC (power), 19 VCCIO1 (power), 20 PR5B/PCLKC1_0 (io), 21 PR5A/PCLKT1_0 (io), 22 GND (power), 23 PT9D/DONE (io), 25 PT9B/PROGRAMN (io), 26 PT9A/JTAGENB (io), 27 PT8D/SDA/PCLKC0_0 (io), 28 PT8C/SCL/PCLKT0_0 (io), 29 PT7B/TMS (io), 30 PT7A/TCK (io), 31 VCCIO0 (power), 32 PT6D/TDI (io)

## LED1
designator D?
Typical RED GaAs LED; Published: 8-Jun-2000; LatestRevisionDate: 08-Jul-2005; LatestRevisionNote: Mech Layer 1 removed.; PackageReference: LED-1; Publisher: Altium Limited
simulation model LED1 (Diode)
3D model QEE113 (PCB3D Model)
footprint QEE113
footprint C1210 (Chip Capacitor; Body 3.2 x 2.5 mm (LxW typ))
pins: 1 A, 2 K

## LED_RGB
designator D?
LED 1411 RGB; Published: 8-Jun-2000; LatestRevisionDate: 08-Jul-2005; LatestRevisionNote: Mech Layer 1 removed.; PackageReference: LED-1; Publisher: Altium Limited
footprint WL-SFTW SMD
pins: 1 A, 2 B, 3 R, 4 G

## Line transformer
designator T?
Published: 8-Jun-2000; LatestRevisionDate: 17-Jul-2002; LatestRevisionNote: Re-released for DXP Platform.; PackageReference: TRF_4; Publisher: Altium Limited; PackageDescription: Transformer; 4 Leads
simulation model IDEALTRANS (Spice Subcircuit)
pins: 1 Line (in), 2 Line (out), 3 Neutral (in), 4 Neutral (out)

## LM1117
designator *
footprint D2PAK (D2-PAK/TO-263-AB; 3 Leads (1 Cropped); Body 15.5 (inc. leads) x 10.5 mm (LxW max))
pins: 1 GND (power), 2 OUT (power), 3 IN (power)

## LM3940IS-3.3
designator U?
1A Low-Dropout Regulator For 5V to 3.3V Conversion; Note: Tab is connected to GND; Published: 15-Apr-2002; DatasheetDocument: Apr-1998; PackageReference: TS3B; Publisher: Altium Limited; ComponentLink1Description: Manufacturer Link; ComponentLink1URL: http://www.national.com/; ComponentLink2Description: Datasheet; ComponentLink2URL: http://www.national.com/ds.cgi/LM/LM3940.pdf; ComponentLink3Description: URL Link1; ComponentLink3URL: http://www.national.com/pf/LM/LM3940.html
footprint SOT223 (SOT-223/SC-73; 4 Leads; Body 6.7 x 7.3 mm, inc. leads (LxW max))
pins: 1 IN (power), 2 GND (power), 3 OUT (power), 4 GND (power)

## LP3990MF-3.3
designator *
footprint DBV
pins: 1 Vin (power), 2 GND (power), 3 Ven (in), 5 Vout (power)

## M74HC4050M1R
designator U?
Hex Buffer/Converter Non-Inverting; Note: Pins 13 and 16 are not connected and not drawn.; Published: 8-Jun-2000; LatestRevisionDate: 6-Jun-2005; LatestRevisionNote: Stylized 3D Model Added.; DatasheetDocument: Mar-1993; PackageDocument: May-1998; PackageReference: SO16; Publisher: Altium Limited; ComponentLink1Description: Manufacturer Link; ComponentLink1URL: http://www.st.com/; ComponentLink2Description: Datasheet; ComponentLink2URL: http://www.st.com/stonline/products/literature/ds/8061/m74hc4050.pdf
3D model SO16 (Small Outline; 16 Leads; Body Width 3.9 mm; Pitch 1.27 mm)
footprint SO16
part A pins: 1 VCC (power), 2 Y (out), 3 A (in), 8 GND (power)
part B pins: 4 Y (out), 5 A (in)
part C pins: 6 Y (out), 7 A (in)
part D pins: 9 A (in), 10 Y (out)
part E pins: 11 A (in), 12 Y (out)
part F pins: 14 A (in), 15 Y (out)

## MCP2210
designator U?
USB-to-SPI Protocol Converter with GPIO (Master Mode)
footprint QFN-ML20_M (QFN, 20-Leads, Body 4x4mm, Pitch 0.5mm, IPC Low Density)
pins: 1 VCC (power), 2 OSC1 (in), 3 OSC2 (out), 4 ~{RESET} (in), 5 GP0 (io), 6 GP1 (io), 7 GP2 (io) "GND", 8 GP3 (io), 9 MOSI (out), 10 GP4 (io), 11 SCK (out), 12 GP5 (io), 13 MISO (in), 14 GP6 (io), 15 GP7 (io), 16 GP8 (io), 17 VUSB (power), 18 D- (io), 19 D+ (io), 20 GND (power)

## MCP2551
designator U?  (value not drawn)
High Speed Can Transceiver; Published: 6-Oct-2005; DatasheetDocument: Nov-2003; PackageDocument: Oct-2005; PackageReference: SOIC150-8; Publisher: Altium Limited; Code_JEDEC: MS-012; ComponentLink1Description: Manufacturer Link; ComponentLink1URL: http://www.microchip.com; ComponentLink2Description: Datasheet; ComponentLink2URL: http://ww1.microchip.com/downloads/en/DeviceDoc/21667d.pdf; Supplier: MICROCHIP
footprint SOIC150-8 (Small Outline, Plastic, Narrow; 8 Leads; Body Width 3.8 mm; Pitch 1.27 mm)
pins: 1 TXD (in) "Screw Terminal", 2 GND (power), 3 VDD (power) "Positive Supply 4.5V to 5.5V", 4 RXD (out) "Receive Data", 5 VREF (out) "Reference Voltage", 6 CANL (out) "CAN Bus Low Line", 7 CANH (out) "CAN Bus High Line", 8 RS "Mode/Slope Setting"

## MCP16301
designator U?
24V Input, 1A/2A Output, High Efficiency High Voltage Input Integrated Switch Step-Down Regulator
footprint SOT23-6_M (SOT23, 6-Leads, Body 2.9x1.6mm, Pitch 0.95mm, Lead Span 2.7mm, IPC Low Density)
pins: 1 BOOST (out), 2 GND (power), 3 VFB (in), 4 EN (in), 5 Vin (power), 6 SW (out)

## MCP16321
designator U?
24V Input, 1A/2A Output, High Efficiency Synchronous Buck Regulator  with Power Good Indication
pins: 1 SW (out), 2 Vin (power), 3 Vin (power), 4 SGND (power), 5 VFB (out), 8 PG (out), 9 EN (in), 10 BOOST, 11 Vin (power), 12 SW (out), 13 SW (out), 14 PGND (power), 15 PGND (power), 16 SW (out), PAD EP (power)

## MCP23017
designator *
footprint SOIC-SO28_N (SOIC, 28-Leads, Body 17.9x7.5mm, Pitch 1.27mm, IPC Medium Density)
pins: 1 GPB0, 2 GPB1, 3 GPB2, 4 GPB3, 5 GPB4, 6 GPB5, 7 GPB6, 8 GPB7, 9 VDD, 10 VSS, 12 SCL, 13 SDA, 15 A0, 16 A1, 17 A2, 18 ~{RESET}, 21 GPA0, 22 GPA1, 23 GPA2, 24 GPA3, 25 GPA4, 26 GPA5, 27 GPA6, 28 GPA7

## MIC5504-3.3YM5
designator *
footprint SOT23-5_M (SOT23, 5-Leads, Body 2.9x1.6mm, Pitch 0.95mm, Lead Span 2.7mm, IPC Low Density)
pins: 1 VIN (in), 2 GND (power), 3 EN (in), 5 VOUT (out)

## MT2-C93402
designator K?
footprint MT2 Relay
pins: 1, 4 C1, 6 R1, 8 T1, 9 R2, 11 R2, 13 C2, 16

## NMOS-2
designator Q?
N-Channel Power MOSFET; Note: Pin 2 is electrically connected to pin 4.; Published: 8-Jun-2000; LatestRevisionDate: 17-Jul-2002; LatestRevisionNote: Re-released for DXP Platform.; DatasheetDocument: PD-9.814; PackageReference: TO-220AB; Publisher: Altium Limited; Code_JEDEC: TO-220-AB; ComponentLink1Description: Manufacturer Link; ComponentLink1URL: http://www.irf.com/
simulation model IRF1010 (Spice Subcircuit)
footprint D2PAK (D2-PAK/TO-263-AB; 3 Leads (1 Cropped); Body 15.5 (inc. leads) x 10.5 mm (LxW max))
footprint SOT-23 (SOT-23; 3 Leads; Body 3.0 x 2.6 mm, inc. leads (LxW max))
pins: 1 G, 2 S, 3 D

## Pad
designator *
footprint PAD
pins: 1 Pad (io)

## PBRC12.00HR50X0RZ
designator Y?
pins: 1 In, 2 GND, 3 Out

## PC357NJ0000F
designator U?
footprint Mini-flat
pins: 1 A "Anode", 2 K "Cathode", 3 E "Emitter", 4 C "Collector"

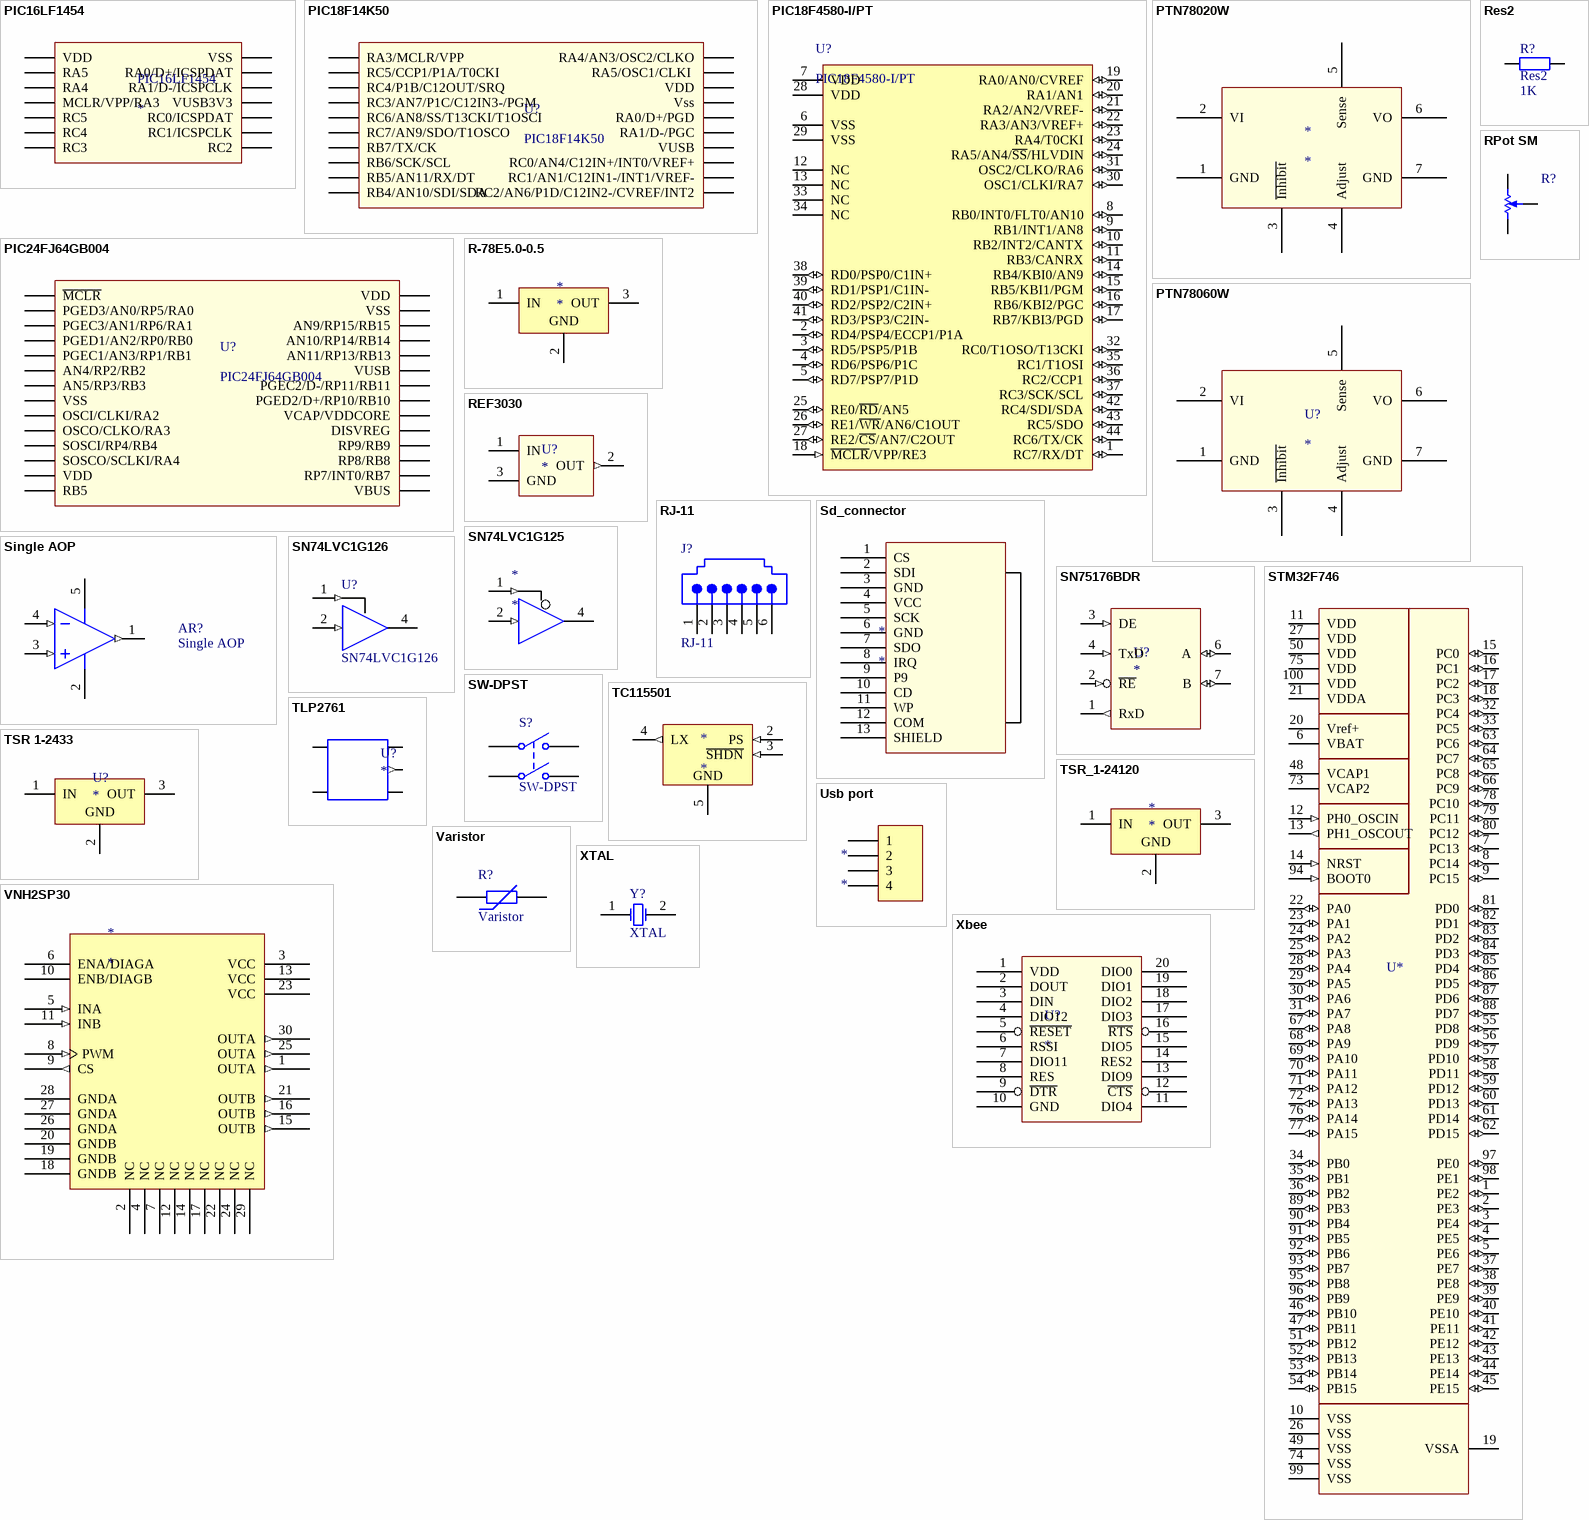
[diagram p3: symbols PIC16LF1454 to XTAL]

## PIC16LF1454
designator PIC16LF1454
PIC16LF1454
footprint SOIC300-14 (SOIC, 28-Leads, Body 17.9x7.5mm, Pitch 1.27mm, IPC High Density)
pins: 1 VDD (power), 2 RA5, 3 RA4, 4 MCLR/VPP/RA3, 5 RC5, 6 RC4, 7 RC3, 8 RC2, 9 RC1/ICSPCLK, 10 RC0/ICSPDAT, 11 VUSB3V3, 12 RA1/D-/ICSPCLK, 13 RA0/D+/ICSPDAT, 14 VSS (power)

## PIC18F14K50
designator U?
pins: 1 RA3/MCLR/VPP, 2 RC5/CCP1/P1A/T0CKI, 3 RC4/P1B/C12OUT/SRQ, 4 RC3/AN7/P1C/C12IN3-/PGM, 5 RC6/AN8/SS/T13CKI/T1OSCI, 6 RC7/AN9/SDO/T1OSCO, 7 RB7/TX/CK, 8 RB6/SCK/SCL, 9 RB5/AN11/RX/DT, 10 RB4/AN10/SDI/SDA, 11 RC2/AN6/P1D/C12IN2-/CVREF/INT2, 12 RC1/AN1/C12IN1-/INT1/VREF-, 13 RC0/AN4/C12IN+/INT0/VREF+, 14 VUSB, 15 RA1/D-/PGC, 16 RA0/D+/PGD, 17 Vss, 18 VDD, 19 RA5/OSC1/CLKI , 20 RA4/AN3/OSC2/CLKO

## PIC18F4580-I/PT
designator U?
Enhanced Flash Microcontroller with ECAN Technology, 10-Bit A/D and nanoWatt Technology, 32K Flash, 44-Pin TQFP, Industrial Temperature Range; Published: 29-Jan-2009; DatasheetVersion: revC, Apr-2007; PackageVersion: revAW, Oct-2008; PackageReference: TQFP-PT44; Publisher: Altium Limited; PackageDescription: 44-Lead Plastic Thin Quad Flatpack (PT) - 10x10x1mm Body, 2.00mm [TQFP]; Code_JEDEC: MS-026; ComponentLink1Description: Manufacturer Link; ComponentLink1URL: http://www.microchip.com; ComponentLink2Description: Datasheet; ComponentLink2URL: http://ww1.microchip.com/downloads/en/DeviceDoc/39637c.pdf; ComponentLink3Description: Packaging Specification; ComponentLink3URL: http://ww1.microchip.com/downloads/en/PackagingSpec/00049AW.pdf; Supplier: MICROCHIP
footprint TQFP-PT44_N (Thin QFP, 44-Leads, Body 10x10mm, Pitch 0.8mm, IPC Medium Density)
footprint TQFP-PT44_L (Thin QFP, 44-Leads, Body 10x10mm, Pitch 0.8mm, IPC High Density)
footprint TQFP-PT44_M (Thin QFP, 44-Leads, Body 10x10mm, Pitch 0.8mm, IPC Low Density)
pins: 1 RC7/RX/DT (io), 2 RD4/PSP4/ECCP1/P1A (io), 3 RD5/PSP5/P1B (io), 4 RD6/PSP6/P1C (io), 5 RD7/PSP7/P1D (io), 6 VSS (power), 7 VDD (power), 8 RB0/INT0/FLT0/AN10 (io), 9 RB1/INT1/AN8 (io), 10 RB2/INT2/CANTX (io), 11 RB3/CANRX (io), 12 NC, 13 NC, 14 RB4/KBI0/AN9 (io), 15 RB5/KBI1/PGM (io), 16 RB6/KBI2/PGC (io), 17 RB7/KBI3/PGD (io), 18 ~{MCLR}/VPP/RE3 (in), 19 RA0/AN0/CVREF (io), 20 RA1/AN1 (io), 21 RA2/AN2/VREF- (io), 22 RA3/AN3/VREF+ (io), 23 RA4/T0CKI (io), 24 RA5/AN4/~{SS}/HLVDIN (io), 25 RE0/~{RD}/AN5 (io), 26 RE1/~{WR}/AN6/C1OUT (io), 27 RE2/~{CS}/AN7/C2OUT (io), 28 VDD (power), 29 VSS (power), 30 OSC1/CLKI/RA7 (io), 31 OSC2/CLKO/RA6 (io), 32 RC0/T1OSO/T13CKI (io), 33 NC, 34 NC, 35 RC1/T1OSI (io), 36 RC2/CCP1 (io), 37 RC3/SCK/SCL (io), 38 RD0/PSP0/C1IN+ (io), 39 RD1/PSP1/C1IN- (io), 40 RD2/PSP2/C2IN+ (io), 41 RD3/PSP3/C2IN- (io), 42 RC4/SDI/SDA (io), 43 RC5/SDO (io), 44 RC6/TX/CK (io)

## PIC24FJ64GB004
designator U?
pins: 1 ~{MCLR}, 2 PGED3/AN0/RP5/RA0, 3 PGEC3/AN1/RP6/RA1, 4 PGED1/AN2/RP0/RB0, 5 PGEC1/AN3/RP1/RB1, 6 AN4/RP2/RB2, 7 AN5/RP3/RB3, 8 VSS (power), 9 OSCI/CLKI/RA2, 10 OSCO/CLKO/RA3, 10 SOSCI/RP4/RB4, 10 SOSCO/SCLKI/RA4, 10 VDD (power), 10 RB5, 11 DISVREG, 11 VBUS, 11 RP7/INT0/RB7, 11 RP8/RB8, 11 RP9/RB9, 12 VCAP/VDDCORE (power), 13 PGED2/D+/RP10/RB10, 14 PGEC2/D-/RP11/RB11, 15 VUSB (power), 16 AN11/RP13/RB13, 17 AN10/RP14/RB14, 18 AN9/RP15/RB15, 19 VSS (power), 20 VDD (power)

## PTN78020W
designator *
footprint EUK
pins: 1 GND (power), 2 VI (power), 3 ~{Inhibit} (power), 4 Adjust (power), 5 Sense (power), 6 VO (power), 7 GND (power)

## PTN78060W
designator U?
footprint EUW
pins: 1 GND (power), 2 VI (power), 3 ~{Inhibit} (power), 4 Adjust (power), 5 Sense (power), 6 VO (power), 7 GND (power)

## R-78E5.0-0.5
designator *
pins: 1 IN (power), 2 GND (power), 3 OUT (power)

## REF3030
designator U?
pins: 1 IN (power), 2 OUT (out), 3 GND (power)

## Res2
designator R?  value 1K
Resistor; Published: 8-Jun-2000; LatestRevisionDate: 17-Jul-2002; LatestRevisionNote: Re-released for DXP Platform.; PackageReference: AXIAL-0.4; Publisher: Altium Limited; Supplier: FARNELL
simulation model RESISTOR (Resistor)
signal-integrity model Res
footprint 0805 (Chip Capacitor; Body 2.0 x 1.2 mm (LxW typ))
footprint 0603
footprint 1210
pins: 1, 2

## RJ-11
designator J?
Right Angle, Standard Profile, Offset Latch DECconnect, Flangeless PCB Jack; Ports: 1; Positions/Loaded: Port1 - 6 Offset Latch/6; PerformanceCategory: 3; PCB_Mounting: Thru-Hole; DrillSize: Nominal, Rounded to nearest 0.05mm; PCB_Layout: Complies with Manufacturer's Recommendation.; Published: 25-Jun-2002; DatasheetDocument: 18-Dec-2001; PackageDocument: 18-Dec-2001; PackageReference: 15-43-6110; Publisher: Altium Limited; ComponentLink1Description: Manufacturer Link; ComponentLink1URL: http://www.molex.com/; ComponentLink2Description: Datasheet; ComponentLink2URL: http://www.molex.com/cmc_upload/common_files/1212003_41369catalogpage.pdf; Supplier: MOLEX
footprint RJ-11 (Connector; PCB Jack, Thru-Hole; 1-Port; Unshielded without Lightpipes; Right Angle)
3D model RJ11 (PCB3D Model)
pins: 1, 2, 3, 4, 5, 6

## RPot SM
designator R?
Square Trimming Potentiometer; Published: 17-Dec-2003; DatasheetDocument: Oct-2003; PackageReference: POT4MM-2; Publisher: Altium Limited; ComponentLink1Description: Manufacturer Link; ComponentLink1URL: http://bourns.com/2/search.html
footprint T7YA
footprint EVM2N
pins: 1 -, 2 W, 3 +
1 alternate drawing of the same symbol

## Sd_connector
designator *
footprint SD_5738
pins: 1 CS, 2 SDI, 3 GND, 4 VCC, 5 SCK, 6 GND, 7 SDO, 8 IRQ, 9 P9, 10 CD, 11 WP, 12 COM, 13 SHIELD

## Single AOP
designator AR?
FET Operational Amplifier; Published: 8-Jun-2000; LatestRevisionDate: 17-Jul-2002; LatestRevisionNote: Re-released for DXP Platform.; DatasheetVersion: REV. B; PackageVersion: 1990; PackageReference: H-08A; Publisher: Altium Limited; PackageDescription: Can; 8 Leads; Pin Circle Dia. 5.08 mm; Lead Dia. 0.53 mm (max); ComponentLink1Description: Manufacturer Link; ComponentLink1URL: http://www.analog.com/
simulation model AD645A (Spice Subcircuit)
pins: 1 OUT (out), 2 V- (power), 3 IN+ (in), 4 IN- (in), 5 V+ (power)

## SN74LVC1G125
designator *
footprint DBV
pins: 1 ~{OE} (in), 2 A (in), 3 GND (power) hidden to GND, 4 Y (hiz), 5 Vcc (power) hidden to Vcc

## SN74LVC1G126
designator U?
SINGLE BUS BUFFER GATE  WITH 3-STATE OUTPUT; PackageDocument: 2000; Published: 15-Apr-2002; LatestRevisionDate: 06-Jun-2005; LatestRevisionNote: Stylized 3D Model Added.; DatasheetDocument: Jun-1989; PackageReference: N14A; Publisher: Altium Limited; ComponentLink1Description: Manufacturer Link; ComponentLink1URL: http://www.national.com/; ComponentLink2Description: Datasheet; ComponentLink2URL: http://www.national.com/ds.cgi/DM/DM54125.pdf; ComponentLink3Description: URL Link1; ComponentLink3URL: http://www.national.com/pf/DM/DM54125.html
footprint DBV
pins: 1 ~{OE} (in), 2 A (in), 3 GND (power) hidden to GND, 4 Y (hiz), 5 VCC (power) hidden to VCC

## SN75176BDR
designator U?
pins: 1 RxD (out), 2 ~{RE} (in), 3 DE (in), 4 TxD (in), 5 GND (power) hidden to GND, 6 A (io), 7 B (io), 8 VCC (power) hidden to VCC

## STM32F746
designator U*  (value not drawn)
footprint LQFP100 (14 x 14 mm 100-pin low-profile)
pins: 1 PE2 (io), 2 PE3 (io), 3 PE4 (io), 4 PE5 (io), 5 PE6 (io), 6 VBAT (power), 7 PC13 (io), 8 PC14 (io), 9 PC15 (io), 10 VSS (power), 11 VDD (power), 12 PH0_OSCIN (in), 13 PH1_OSCOUT (out), 14 NRST (in), 15 PC0 (io), 16 PC1 (io), 17 PC2 (io), 18 PC3 (io), 19 VSSA (power), 20 Vref+ (power), 21 VDDA (power), 22 PA0 (io), 23 PA1 (io), 24 PA2 (io), 25 PA3 (io), 26 VSS (power), 27 VDD (power), 28 PA4 (io), 29 PA5 (io), 30 PA6 (io), 31 PA7 (io), 32 PC4 (io), 33 PC5 (io), 34 PB0 (io), 35 PB1 (io), 36 PB2 (io), 37 PE7 (io), 38 PE8 (io), 39 PE9 (io), 40 PE10 (io), 41 PE11 (io), 42 PE12 (io), 43 PE13 (io), 44 PE14 (io), 45 PE15 (io), 46 PB10 (io), 47 PB11 (io), 48 VCAP1 (power), 49 VSS (power), 50 VDD (power), 51 PB12 (io), 52 PB13 (io), 53 PB14 (io), 54 PB15 (io), 55 PD8 (io), 56 PD9 (io), 57 PD10 (io), 58 PD11 (io), 59 PD12 (io), 60 PD13 (io), 61 PD14 (io), 62 PD15 (io), 63 PC6 (io), 64 PC7 (io), 65 PC8 (io), 66 PC9 (io), 67 PA8 (io), 68 PA9 (io), 69 PA10 (io), 70 PA11 (io), 71 PA12 (io), 72 PA13 (io), 73 VCAP2 (power), 74 VSS (power), 75 VDD (power), 76 PA14 (io), 77 PA15 (io), 78 PC10 (io), 79 PC11 (io), 80 PC12 (io), 81 PD0 (io), 82 PD1 (io), 83 PD2 (io), 84 PD3 (io), 85 PD4 (io), 86 PD5 (io), 87 PD6 (io), 88 PD7 (io), 89 PB3 (io), 90 PB4 (io), 91 PB5 (io), 92 PB6 (io), 93 PB7 (io), 94 BOOT0 (in), 95 PB8 (io), 96 PB9 (io), 97 PE0 (io), 98 PE1 (io), 99 VSS (power), 100 VDD (power)

## SW-DPST
designator S?
Double-Pole, Single-Throw Switch; Published: 24-Mar-1999; LatestRevisionDate: 17-Jul-2002; LatestRevisionNote: Re-released for DXP Platform.; PackageReference: DPST-4; Publisher: Altium Limited; Supplier: FARNELL
footprint Bouton poussoir
pins: 1 COMMON1, 2 NO1, 3 COMMON2, 4 NO2

## TC115501
designator *
pins: 2 PS (in), 3 ~{SHDN} (in), 4 LX (out), 5 GND (power)

## TLP2761
designator U?
pins: 1 A "Anode", 3 K "Cathode", 4 GND (power) "Emitter", 5 Vo (out) "Collector", 6 VCC (power) "Collector"

## TSR 1-2433
designator U?
pins: 1 IN (power), 2 GND (power), 3 OUT (power)

## TSR_1-24120
designator *
pins: 1 IN (power), 2 GND (power), 3 OUT (power)

## Usb port
designator *
footprint Mini USB type B
pins: 1, 2, 3, 4

## Varistor
designator R?
Varistor (Voltage-Sensitive Resistor); Published: 24-Mar-1999; LatestRevisionDate: 29-May-2009; LatestRevisionNote: IPC-7351 Footprint Added.; PackageVersion: Mar-2003; PackageReference: 6-0805; Publisher: Altium Limited; PackageDescription: Chip Resistor 0805 Case Size; Code_IPC: RESC2012
pins: 1, 2

## VNH2SP30
designator *
footprint MultiPowerSO30
pins: 1 OUTA (out), 2 NC, 3 VCC (power), 4 NC, 5 INA (in), 6 ENA/DIAGA, 7 NC, 8 PWM (in), 9 CS (out), 10 ENB/DIAGB, 11 INB (in), 12 NC, 13 VCC (power), 14 NC, 15 OUTB (out), 16 OUTB (out), 17 NC, 18 GNDB (power), 19 GNDB (power), 20 GNDB (power), 21 OUTB (out), 22 NC, 23 VCC (power), 24 NC, 25 OUTA (out), 26 GNDA (power), 27 GNDA (power), 28 GNDA (power), 29 NC, 30 OUTA (out)

## Xbee
designator U?
footprint Xbee
pins: 1 VDD, 2 DOUT, 3 DIN, 4 DIO12, 5 ~{RESET}, 6 RSSI, 7 DIO11, 8 RES, 9 ~{DTR}, 10 GND, 11 DIO4, 12 ~{CTS}, 13 DIO9, 14 RES2, 15 DIO5, 16 ~{RTS}, 17 DIO3, 18 DIO2, 19 DIO1, 20 DIO0

## XTAL
designator Y?
Crystal Oscillator; Published: 8-Jun-2000; LatestRevisionDate: 17-Jul-2002; LatestRevisionNote: Re-released for DXP Platform.; PackageReference: R38; Publisher: Altium Limited; Supplier: FARNELL
simulation model XTAL (Spice Subcircuit)
footprint HC49US
footprint SP-T2A-F
footprint DX-57
pins: 1 OSC1, 2 OSC2